# Altium schematic symbol library Other-ULC0524P.SchLib: 1 symbol
Pins are listed as number, name and electrical type; pins without a type are passive.

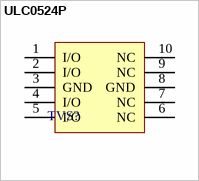
[diagram p0: symbol ULC0524P]

## ULC0524P
designator TVS?  (no BOM)
pins: 1 I/O, 2 I/O, 3 GND, 4 I/O, 5 I/O, 6 NC, 7 NC, 8 GND, 9 NC, 10 NC